# EAGLE library part POLOLU_2507 (library eCVT_Library)
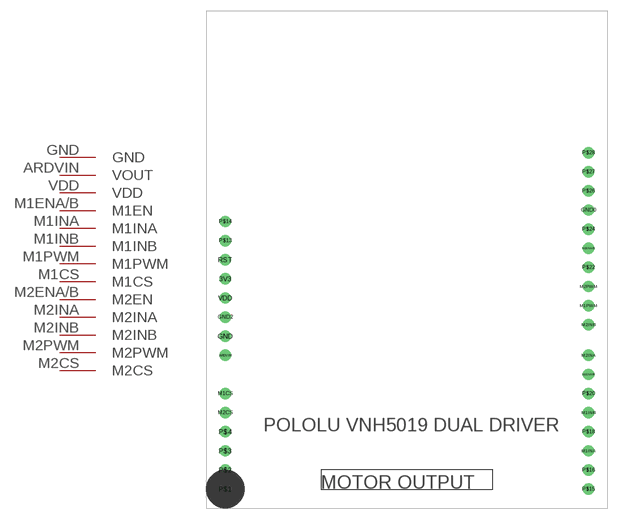
[diagram p1: symbol with the pads of POLOLU_2507; footprint POLOLU_2507]

Designator prefix -

## POLOLU_2507  [POLOLU_2507]
ARDVIN  VOUT
GND  GND
M1CS  M1CS
M1ENA/B  M1EN
M1INA  M1INA
M1INB  M1INB
M1PWM  M1PWM
M2CS  M2CS
M2ENA/B  M2EN
M2INA  M2INA
M2INB  M2INB
M2PWM  M2PWM
VDD  VDD

## Footprint POLOLU_2507 (pad centres in mm)
drill 1: 3V3 2.54,30.48; ARDVIN 2.54,20.32; GND 2.54,22.86; GND0 50.8,39.624; GND2 2.54,25.4; M1CS 2.54,15.24; M1ENA/B 50.8,17.78; M1INA 50.8,7.62; M1INB 50.8,12.7; M1PWM 50.8,26.924; M2CS 2.54,12.7; M2ENA/B 50.8,34.544; M2INA 50.8,20.32; M2INB 50.8,24.384; M2PWM 50.8,29.464; P$1 2.54,2.54; P$2 2.54,5.08; P$3 2.54,7.62; P$4 2.54,10.16; P$13 2.54,35.56; P$14 2.54,38.1; P$15 50.8,2.54; P$16 50.8,5.08; P$18 50.8,10.16; P$20 50.8,15.24; P$22 50.8,32.004; P$24 50.8,37.084; P$26 50.8,42.164; P$27 50.8,44.704; P$28 50.8,47.244; RST 2.54,33.02; VDD 2.54,27.94